# Altium footprint library WP-PFEFUA.PcbLib: 7 footprints
Each footprint in its own frame and in the unit in brackets; x right, y up, seen from the top. Pads: shape width x height; smd on the part's side, far side on the other; paste and mask are expansions set on the pad; w line width, h text height; cw(c..) or ccw(c..) is an arc to the next point about the centre after c.
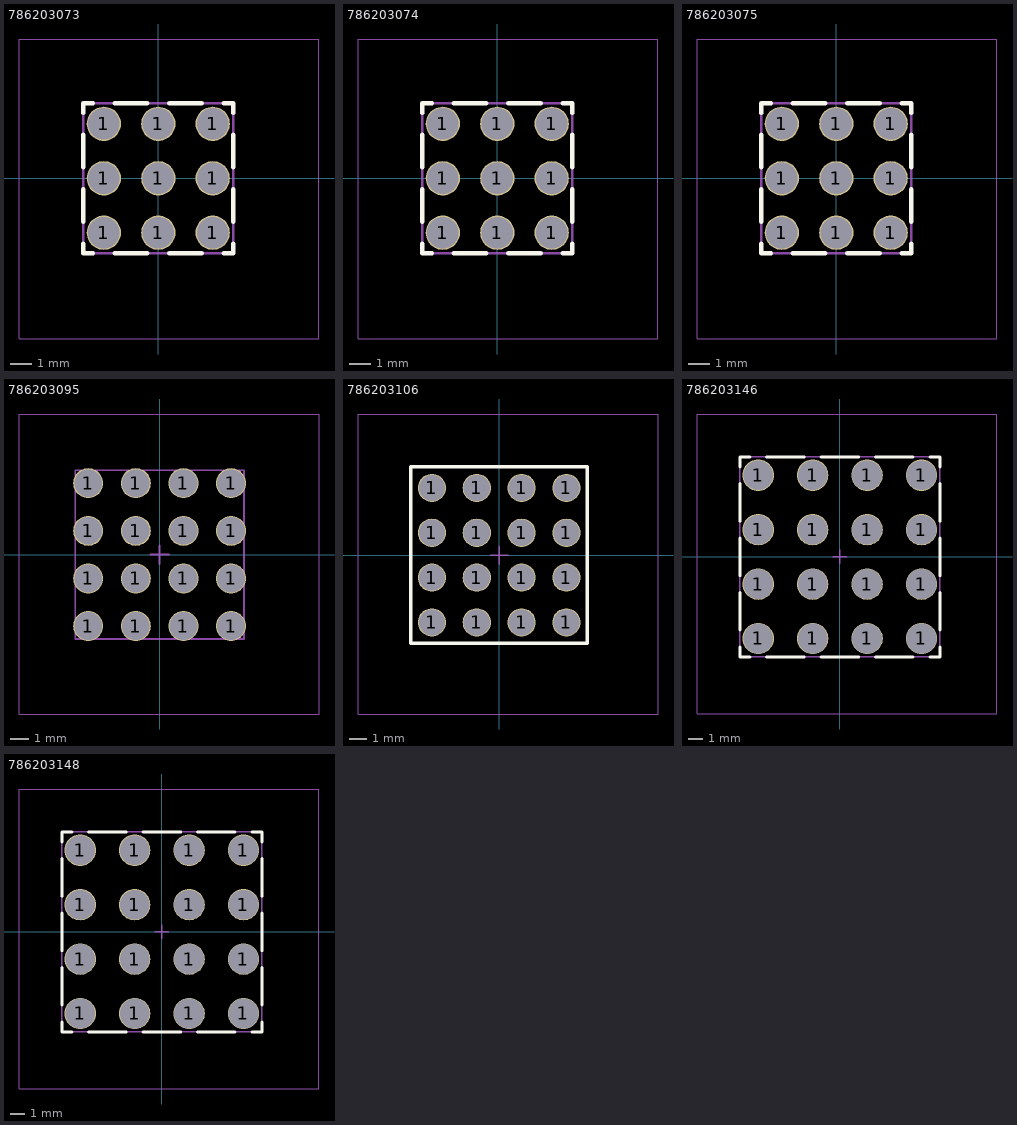
[diagram p0: the footprints below, top view; thin cyan lines are the x and y axes]

## 786203073 [mm] "REDCUBE PRESS-FIT, body 7.00 x 7.00 mm"
height 7.7
pads (9):
  round 1.6 hole 1.475: 1(-2.54,-2.54) 1(-2.54,0) 1(-2.54,2.54) 1(0,-2.54) 1(0,0) 1(0,2.54) 1(2.54,-2.54) 1(2.54,0) 1(2.54,2.54)
Top Overlay:
  lines w0.2: -3.5,-3.05 -3.5,-3.5 -3.05,-3.5 ; -3.5,-2.03 -3.5,-0.51 ; -3.5,0.51 -3.5,2.03 ; -3.5,3.05 -3.5,3.5 -3.05,3.5 ; -2.03,-3.5 -0.51,-3.5 ; -2.03,3.5 -0.51,3.5 ; 0.51,-3.5 2.03,-3.5 ; 0.51,3.5 2.03,3.5 ; 3.05,-3.5 3.5,-3.5 3.5,-3.05 ; 3.05,3.5 3.5,3.5 3.5,3.05 ; 3.5,-2.03 3.5,-0.51 ; 3.5,0.51 3.5,2.03
Assembly Notes:
  text "No components around the REDCUBE system with a minimum safety distance of 4mm / Do no place the REDCUBE within 3mm of PCB  boundary" at -5.6,-5.5 h0.5
Top Assembly:
  lines w0.1: -3.5,-3.5 3.5,-3.5 3.5,3.5 -3.5,3.5 -3.5,-3.5
Top Designator:
  text ".Designator" at -3.647,-0.357 h1
Top Courtyard:
  lines w0.05: -6.5,-7.5 7.5,-7.5 7.5,6.5 -6.5,6.5 -6.5,-7.5
Top Component Center:
  lines w0.1: -0.5,0 0.5,0 ; 0,-0.5 0,0.5
3D body "786203073.stp": height 7.53, standoff -2.97, extent -3.5,-3.5 3.5,3.5

## 786203074 [mm] "REDCUBE PRESS-FIT, body 7.00 x 7.00 mm"
height 9.2
pads (9):
  round 1.6 hole 1.475: 1(-2.54,-2.54) 1(-2.54,0) 1(-2.54,2.54) 1(0,-2.54) 1(0,0) 1(0,2.54) 1(2.54,-2.54) 1(2.54,0) 1(2.54,2.54)
Top Overlay:
  lines w0.2: -3.5,-3.05 -3.5,-3.5 -3.05,-3.5 ; -3.5,-2.03 -3.5,-0.51 ; -3.5,0.51 -3.5,2.03 ; -3.5,3.05 -3.5,3.5 -3.05,3.5 ; -2.03,-3.5 -0.51,-3.5 ; -2.03,3.5 -0.51,3.5 ; 0.51,-3.5 2.03,-3.5 ; 0.51,3.5 2.03,3.5 ; 3.05,-3.5 3.5,-3.5 3.5,-3.05 ; 3.05,3.5 3.5,3.5 3.5,3.05 ; 3.5,-2.03 3.5,-0.51 ; 3.5,0.51 3.5,2.03
Assembly Notes:
  text "No components around the REDCUBE system with a minimum safety distance of 4mm / Do no place the REDCUBE within 3mm of PCB  boundary" at -5.6,-5.5 h0.5
Top Assembly:
  lines w0.1: -3.5,-3.5 3.5,-3.5 3.5,3.5 -3.5,3.5 -3.5,-3.5
Top Designator:
  text ".Designator" at -3.647,-0.357 h1
Top Courtyard:
  lines w0.05: -6.5,-7.5 7.5,-7.5 7.5,6.5 -6.5,6.5 -6.5,-7.5
Top Component Center:
  lines w0.1: -0.5,0 0.5,0 ; 0,-0.5 0,0.5
3D body "786203074.stp": height 9.05, standoff -2.95, extent -3.5,-3.5 3.5,3.5

## 786203075 [mm] "REDCUBE PRESS-FIT, body 7.00 x 7.00 mm"
height 12.2
pads (9):
  round 1.6 hole 1.475: 1(-2.54,-2.54) 1(-2.54,0) 1(-2.54,2.54) 1(0,-2.54) 1(0,0) 1(0,2.54) 1(2.54,-2.54) 1(2.54,0) 1(2.54,2.54)
Top Overlay:
  lines w0.2: -3.5,-3.05 -3.5,-3.5 -3.05,-3.5 ; -3.5,-2.03 -3.5,-0.51 ; -3.5,0.51 -3.5,2.03 ; -3.5,3.05 -3.5,3.5 -3.05,3.5 ; -2.03,-3.5 -0.51,-3.5 ; -2.03,3.5 -0.51,3.5 ; 0.51,-3.5 2.03,-3.5 ; 0.51,3.5 2.03,3.5 ; 3.05,-3.5 3.5,-3.5 3.5,-3.05 ; 3.05,3.5 3.5,3.5 3.5,3.05 ; 3.5,-2.03 3.5,-0.51 ; 3.5,0.51 3.5,2.03
Assembly Notes:
  text "No components around the REDCUBE system with a minimum safety distance of 4mm / Do no place the REDCUBE within 3mm of PCB  boundary" at -5.6,-5.5 h0.5
Top Assembly:
  lines w0.1: -3.5,-3.5 3.5,-3.5 3.5,3.5 -3.5,3.5 -3.5,-3.5
Top Designator:
  text ".Designator" at -3.647,-0.357 h1
Top Courtyard:
  lines w0.05: -6.5,-7.5 7.5,-7.5 7.5,6.5 -6.5,6.5 -6.5,-7.5
Top Component Center:
  lines w0.1: -0.5,0 0.5,0 ; 0,-0.5 0,0.5
3D body "786203075.stp": height 12.05, standoff -2.95, extent -3.5,-3.5 3.5,3.5

## 786203095 [mm] "REDCUBE PRESS-FIT, body 9.00 x 9.00 mm"
height 14.5
pads (16):
  round 1.6 hole 1.475: 1(-3.81,-3.81) 1(-3.81,-1.27) 1(-3.81,1.27) 1(-3.81,3.81) 1(-1.27,-3.81) 1(-1.27,-1.27) 1(-1.27,1.27) 1(-1.27,3.81) 1(1.27,-3.81) 1(1.27,-1.27) 1(1.27,1.27) 1(1.27,3.81) 1(3.81,-3.81) 1(3.81,-1.27) 1(3.81,1.27) 1(3.81,3.81)
Assembly Notes:
  text "No components around the REDCUBE system with a minimum safety distance of 4mm / Do no place the REDCUBE within 3mm of PCB  boundary" at -5.6,-6.5 h0.5
Top Assembly:
  lines w0.1: -4.5,-4.5 4.5,-4.5 4.5,4.5 -4.5,4.5 -4.5,-4.5
Top Designator:
  text ".Designator" at -3.647,-0.357 h1
Top Courtyard:
  lines w0.05: -7.5,-8.5 8.5,-8.5 8.5,7.5 -7.5,7.5 -7.5,-8.5
Top Component Center:
  lines w0.1: -0.5,0 0.5,0 ; 0,-0.5 0,0.5
3D body "786203095.stp": height 12.6, standoff -2.9, extent -4.5,-4.5 4.5,4.5

## 786203106 [mm] "REDCUBE PRESS-FIT, body 10.00 x 10.00 mm"
height 14.7
pads (16):
  round 1.6 hole 1.475: 1(-3.81,-3.81) 1(-3.81,-1.27) 1(-3.81,1.27) 1(-3.81,3.81) 1(-1.27,-3.81) 1(-1.27,-1.27) 1(-1.27,1.27) 1(-1.27,3.81) 1(1.27,-3.81) 1(1.27,-1.27) 1(1.27,1.27) 1(1.27,3.81) 1(3.81,-3.81) 1(3.81,-1.27) 1(3.81,1.27) 1(3.81,3.81)
Top Overlay:
  lines w0.2: -5,-5 -5,5 5,5 5,-5 -5,-5
Assembly Notes:
  text "No components around the REDCUBE system with a minimum safety distance of 4mm / Do no place the REDCUBE within 3mm of PCB  boundary" at -5.6,-7 h0.5
Top Assembly:
  lines w0.1: -5,-5 5,-5 5,5 -5,5 -5,-5
Top Designator:
  text ".Designator" at -3.647,-0.357 h1
Top Courtyard:
  lines w0.05: -8,-9 9,-9 9,8 -8,8 -8,-9
Top Component Center:
  lines w0.1: -0.5,0 0.5,0 ; 0,-0.5 0,0.5
3D body "786203106.stp": height 14.6, standoff -2.9, extent -5,-5 5,5

## 786203146 [mm] "REDCUBE PRESS-FIT, body 14.00 x 14.00 mm"
height 15.7
pads (16):
  round 2.2 hole 2.08: 1(-5.715,-5.715) 1(-5.715,-1.905) 1(-5.715,1.905) 1(-5.715,5.715) 1(-1.905,-5.715) 1(-1.905,-1.905) 1(-1.905,1.905) 1(-1.905,5.715) 1(1.905,-5.715) 1(1.905,-1.905) 1(1.905,1.905) 1(1.905,5.715) 1(5.715,-5.715) 1(5.715,-1.905) 1(5.715,1.905) 1(5.715,5.715)
Top Overlay:
  lines w0.2: -7,-6.3 -7,-7 -6.3,-7 ; -7,-5.13 -7,-2.49 ; -7,-1.32 -7,1.32 ; -7,2.49 -7,5.13 ; -7,6.3 -7,7 -6.3,7 ; -5.13,-7 -2.49,-7 ; -5.13,7 -2.49,7 ; -1.32,-7 1.32,-7 ; -1.32,7 1.32,7 ; 2.49,-7 5.13,-7 ; 2.49,7 5.13,7 ; 6.3,-7 7,-7 7,-6.3 ; 6.3,7 7,7 7,6.3 ; 7,-5.13 7,-2.49 ; 7,-1.32 7,1.32 ; 7,2.49 7,5.13
Assembly Notes:
  text "No components around the REDCUBE system with a minimum safety distance of 4mm / Do no place the REDCUBE within 3mm of PCB  boundary" at -5.6,-9 h0.5
Top Assembly:
  lines w0.1: -7,-7 7,-7 7,7 -7,7 -7,-7
Top Designator:
  text ".Designator" at -3.647,-0.357 h1
Top Courtyard:
  lines w0.05: -10,-11 11,-11 11,10 -10,10 -10,-11
Top Component Center:
  lines w0.1: -0.5,0 0.5,0 ; 0,-0.5 0,0.5
3D body "786203146.stp": height 15.55, standoff -2.95, extent -7,-7 7,7

## 786203148 [mm] "REDCUBE PRESS-FIT, body 14.00 x 14.00 mm"
height 20.7
pads (16):
  round 2.2 hole 2.08: 1(-5.715,-5.715) 1(-5.715,-1.905) 1(-5.715,1.905) 1(-5.715,5.715) 1(-1.905,-5.715) 1(-1.905,-1.905) 1(-1.905,1.905) 1(-1.905,5.715) 1(1.905,-5.715) 1(1.905,-1.905) 1(1.905,1.905) 1(1.905,5.715) 1(5.715,-5.715) 1(5.715,-1.905) 1(5.715,1.905) 1(5.715,5.715)
Top Overlay:
  lines w0.2: -7,-6.3 -7,-7 -6.3,-7 ; -7,-5.13 -7,-2.49 ; -7,-1.32 -7,1.32 ; -7,2.49 -7,5.13 ; -7,6.3 -7,7 -6.3,7 ; -5.13,-7 -2.49,-7 ; -5.13,7 -2.49,7 ; -1.32,-7 1.32,-7 ; -1.32,7 1.32,7 ; 2.49,-7 5.13,-7 ; 2.49,7 5.13,7 ; 6.3,-7 7,-7 7,-6.3 ; 6.3,7 7,7 7,6.3 ; 7,-5.13 7,-2.49 ; 7,-1.32 7,1.32 ; 7,2.49 7,5.13
Assembly Notes:
  text "No components around the REDCUBE system with a minimum safety distance of 4mm / Do no place the REDCUBE within 3mm of PCB  boundary" at -5.6,-9 h0.5
Top Assembly:
  lines w0.1: -7,-7 -7,7 7,7 7,-7 -7,-7
Top Designator:
  text ".Designator" at -3.647,-0.357 h1
Top Courtyard:
  lines w0.05: -10,-11 -10,10 11,10 11,-11 -10,-11
Top Component Center:
  lines w0.1: -0.5,0 0.5,0 ; 0,-0.5 0,0.5
3D body "786203148.stp": height 20.55, standoff -2.95, extent -7,-7 7,7